# Altium footprint library ENGR100PCB.PcbLib: 28 footprints (part 2 of 2)
Each footprint in its own frame and in the unit in brackets; x right, y up, seen from the top. Pads: shape width x height; smd on the part's side, far side on the other; paste and mask are expansions set on the pad; w line width, h text height; cw(c..) or ccw(c..) is an arc to the next point about the centre after c.
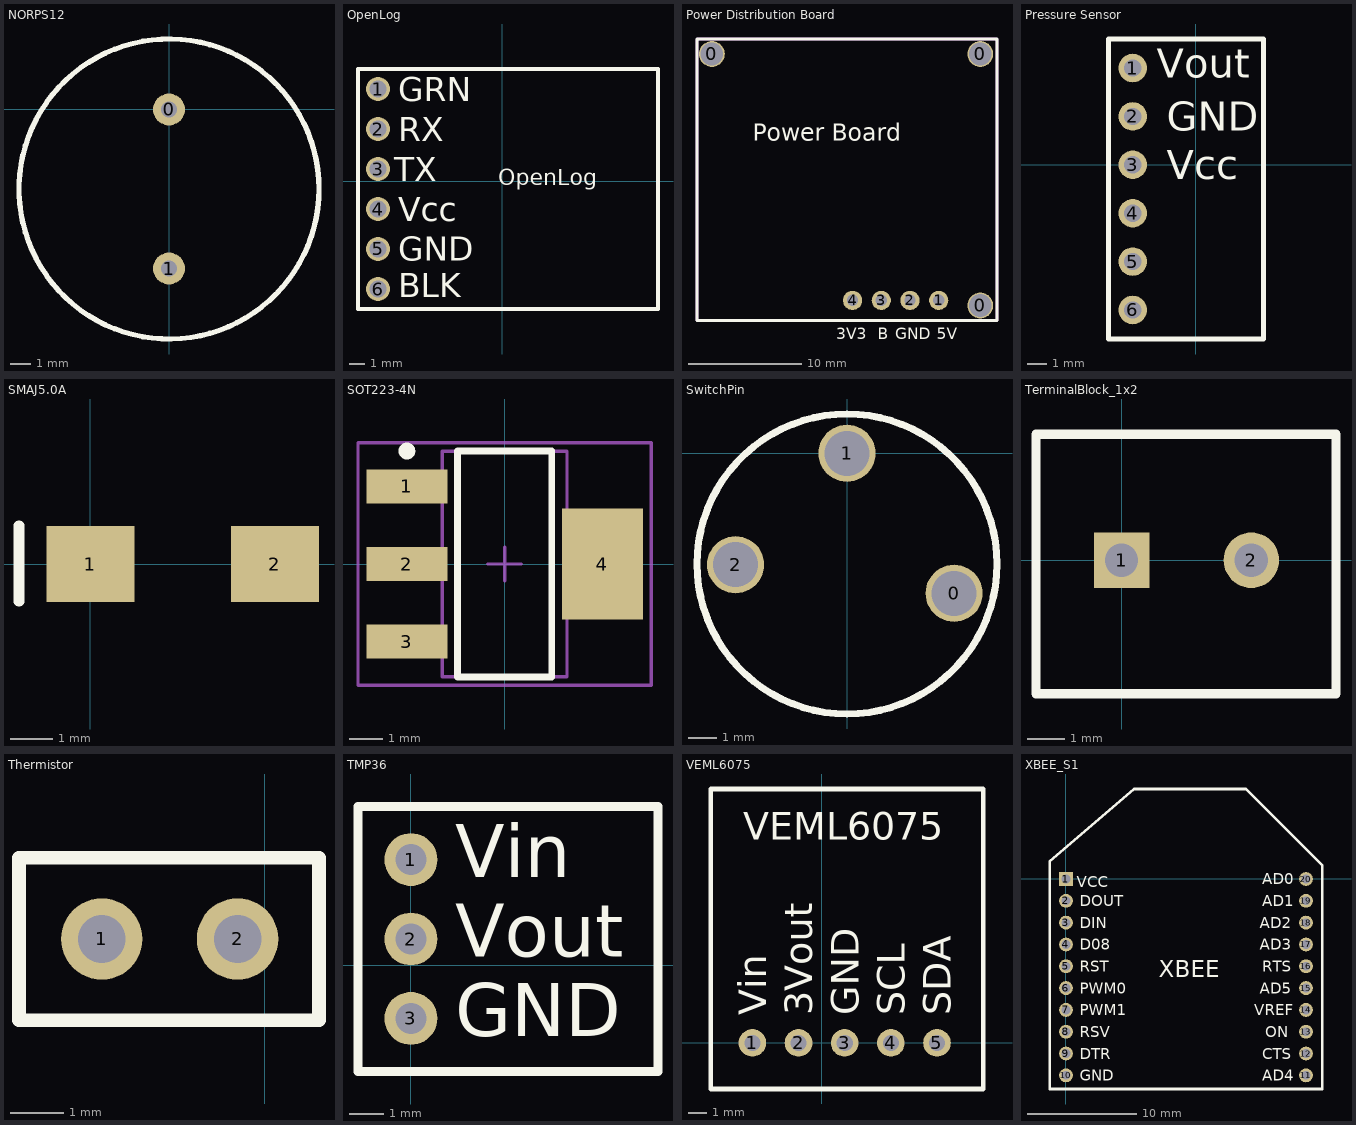
[diagram p1: the footprints below, top view; thin cyan lines are the x and y axes]

## NORPS12 [mil] "NORPS-12 Photocell"
pads (2):
  round 60 hole 30: 0(0,0) 1(0,-300)
Top Overlay:
  circle w10: c0,-150 r283
3D body: height 1000, standoff 725, extent -285,-435 285,135

## OpenLog [mil]
pads (6):
  round 60 hole 43.31: 1(-310,230) 2(-310,130) 3(-310,30) 4(-310,-70) 5(-310,-170) 6(-310,-270)
Top Overlay:
  lines w10: -360,-320 390,-320 390,280 -360,280 -360,-320
  text "OpenLog" at -10,-10 h40
  text "GRN" at -260,200 h60
  text "RX" at -260,100 h60
  text "TX" at -270,0 h60
  text "Vcc" at -260,-100 h60
  text "GND" at -260,-200 h60
  text "BLK" at -260,-290 h60
3D body: height 500, standoff 0, extent -360,-320 390,280

## Power Distribution Board [mm]
pads (7):
  round 2.286 hole 2: 0(38.907,77.667) 0(62.657,55.417) 0(62.657,77.667)
  round 1.7 hole 1: 1(58.977,55.867) 2(56.437,55.867) 3(53.897,55.867) 4(51.357,55.867)
Top Overlay:
  lines w0.254: 37.592,54.102 64.135,54.102 64.135,78.994 37.592,78.994 37.592,54.102
  text "3V3" at 49.911,52.451 h1
  text "B" at 53.594,52.451 h1
  text "GND" at 55.118,52.451 h1
  text "5V" at 58.801,52.451 h1
  text "Power Board" at 42.545,69.977 h1.52
Mechanical 1:
  lines w0.254: 37.592,54.102 64.135,54.102 64.135,78.994 37.592,78.994 37.592,54.102

## Pressure Sensor [mm] "MPX4115A"
pads (6):
  round 1.5 hole 0.9: 1(-3.302,5.08) 2(-3.302,2.54) 3(-3.302,0) 4(-3.302,-2.54) 5(-3.302,-5.08) 6(-3.302,-7.62)
Top Overlay:
  lines w0.254: -4.572,-9.144 3.556,-9.144 3.556,6.604 -4.572,6.604 -4.572,-4.572 -4.572,-9.144
  text "Vcc" at -1.524,-0.762 h1.52
  text "GND" at -1.524,1.778 h1.52
  text "Vout" at -2.032,4.572 h1.52
3D body: height 12.7, standoff 0, extent -4.572,-9.144 3.556,6.604

## SMAJ5.0A [mm]
pads (2):
  rect 2.1x1.8 smd: 1(0,0) 2(4.4,0)
Top Overlay:
  lines w0.254: -1.702,-0.889 -1.702,0.911

## SOT223-4N [mm] "SOT223, 4-Leads, Body 6.5x3.5mm, Pitch 2.3mm, Lead Span 7mm, IPC Medium Density"
height 1.8
pads (4):
  rect 2.4x1 smd: 1(-2.9,2.3) 2(-2.9,0) 3(-2.9,-2.3)
  rect 2.4x3.3 smd: 4(2.9,0)
Top Overlay:
  circle w0.25: c-2.9,3.35 r0.125
  lines w0.2: -1.4,-3.35 -1.4,3.35 1.4,3.35 1.4,-3.35 -1.4,-3.35
Mechanical 13:
  lines w0.1: -1.85,-3.35 -1.85,3.35 1.85,3.35 1.85,-3.35 -1.85,-3.35
Mechanical 15:
  lines w0.1: -0.5,0 0.5,0 ; 0,-0.5 0,0.5 ; -4.35,-3.6 -4.35,3.6 4.35,3.6 4.35,-3.6 -4.35,-3.6
3D body: height 1.8, standoff 0, extent -1.85,-3.35 1.85,3.35

## SwitchPin [mil]
pads (3):
  round 80 hole 63: 0(150,-196) 1(0,0) 2(-156,-156)
Top Overlay:
  circle w10: c0,-155 r210

## TerminalBlock_1x2 [mm]
pads (2):
  rect 1.5x1.5 hole 0.9: 1(0,0)
  round 1.5 hole 0.9: 2(3.505,0)
Top Overlay:
  lines w0.254: -2.311,-3.607 5.791,-3.607 5.791,3.404 -2.311,3.404 -2.311,0 -2.311,-3.607
3D body: height 8.41, standoff 0, extent -2.311,-3.607 5.791,3.404

## Thermistor [mil]
pads (2):
  round 60 hole 35: 1(-120,-940) 2(-20,-940)
Top Overlay:
  lines w10: -181,-1000 40,-1000 40,-880 -181,-880 -181,-940 -181,-1000
3D body: height 331, standoff 0, extent -180,-1000 40,-880

## TMP36 [mil] "TMP36 Temperature Sensor"
height 100
pads (3):
  round 60 hole 35: 1(0,120) 2(0,30) 3(0,-60)
Top Overlay:
  lines w10: -60,-120 -60,180 280,180 280,-120 -60,-120
  text "GND" at 50,-80 h60
  text "Vout" at 50,10 h60
  text "Vin" at 50,100 h60
3D body: height 500, standoff 0, extent -60,-120 280,180

## VEML6075 [mil] "UV-light sensor module from adafruit"
pads (5):
  round 60 hole 35: 1(-150,0) 2(-50,0) 3(50,0) 4(150,0) 5(250,0)
Top Overlay:
  lines w10: -240,530 -240,550 350,550 350,-100 340,-100 250,-100 -240,-100 -240,540
  text "SDA" at 280,60 h60
  text "SCL" at 180,60 h60
  text "GND" at 80,60 h60
  text "3Vout" at -20,60 h60
  text "Vin" at -120,60 h60
  text "VEML6075" at -170,440 h60
3D body: height 500, standoff 0, extent -240,-100 350,550

## XBEE_S1 [mm] "XBee S1 Footprint STD"
pads (20):
  rect 1.27x1.27 hole 0.8 square: 1(0,0)
  round 1.27 hole 0.8: 2(0,-2) 3(0,-4) 4(0,-6) 5(0,-8) 6(0,-10) 7(0,-12) 8(0,-14) 9(0,-16) 10(0,-18) 11(22,-18) 12(22,-16) 13(22,-14) 14(22,-12) 15(22,-10) 16(22,-8) 17(22,-6) 18(22,-4) 19(22,-2) 20(22,0)
Top Overlay:
  lines w0.254: -1.5,-19.25 -1.5,1.594 6.237,8.25 15.07,8.25 16.5,8.25 23.5,1.25 23.5,-19.25 -1.5,-19.25
  text "AD4" at 18,-18.5 h1
  text "CTS" at 18,-16.5 h1
  text "ON" at 18.25,-14.5 h1
  text "VREF" at 17.25,-12.5 h1
  text "AD5" at 17.75,-10.5 h1
  text "RTS" at 18,-8.5 h1
  text "AD3" at 17.75,-6.5 h1
  text "AD2" at 17.75,-4.5 h1
  text "AD1" at 18,-2.5 h1
  text "AD0" at 18,-0.5 h1
  text "GND" at 1.25,-18.5 h1
  text "DTR" at 1.25,-16.5 h1
  text "RSV" at 1.25,-14.5 h1
  text "PWM1" at 1.25,-12.5 h1
  text "PWM0" at 1.25,-10.5 h1
  text "RST" at 1.25,-8.5 h1
  text "DOUT" at 1.25,-2.5 h1
  text "D08" at 1.25,-6.5 h1
  text "DIN" at 1.25,-4.5 h1
  text "VCC" at 1,-0.75 h1
  text "XBEE" at 8.5,-9 h1.52
3D body: height 12.7, standoff 0, extent -1.524,-19.304 23.622,8.128